# Altium footprint library ideal-diodes.PcbLib: 1 footprints
Each footprint in its own frame and in the unit in brackets; x right, y up, seen from the top. Pads: shape width x height; smd on the part's side, far side on the other; paste and mask are expansions set on the pad; w line width, h text height; cw(c..) or ccw(c..) is an arc to the next point about the centre after c.
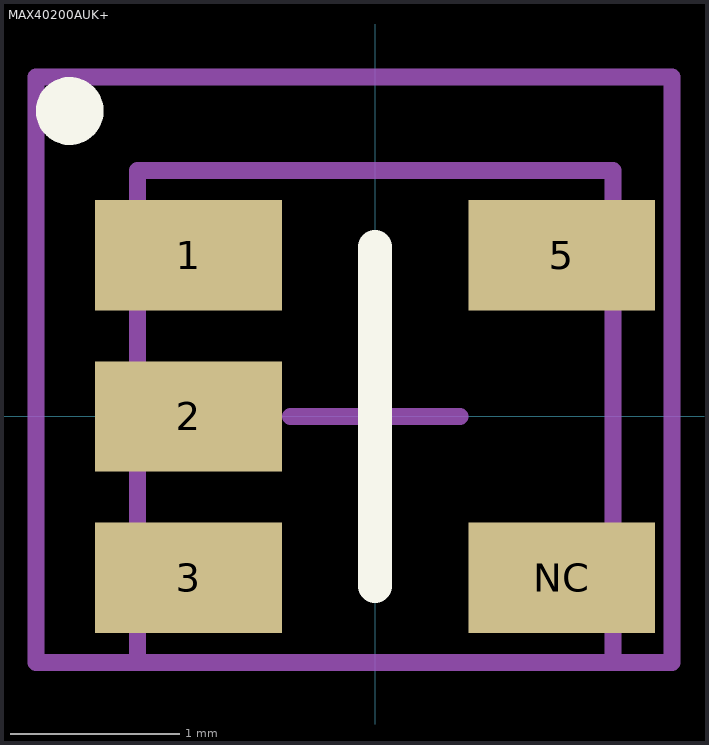
[diagram p0: the footprint, top view; thin cyan lines are the x and y axes]

## MAX40200AUK+ [mm] "SOT23-5"
height 0.45
pads (5):
  rect 1.1x0.65 smd: 1(-1.1,0.95) 2(-1.1,0) 3(-1.1,-0.95) 5(1.1,0.95) NC(1.1,-0.95)
Top Overlay:
  circle w0.2: c-1.8,1.8 r0.1
  lines w0.2: 0,-1 0,1
Top Assembly:
  circle w0.1: c-1,1 r0.2
  lines w0.1: -1.4,-1.45 -1.4,1.45 1.4,1.45 1.4,-1.45 -1.4,-1.45
Top Component Center:
  lines w0.1: -0.5,0 0.5,0 ; 0,-0.5 0,0.5
Top Component Outline:
  lines w0.1: -1.4,-1.45 -1.4,1.45 1.4,1.45 1.4,-1.45 -1.4,-1.45
Top Courtyard:
  lines w0.1: -2,-1.45 -2,2 1.75,2 1.75,-1.45 -2,-1.45
Top Designator:
  text "''.Designator''" at 0,0 h2.5
Top Value:
  text "''.Comment''" at 0,0 h2.5
3D body "MAX40200AUK+T.STEP": height 1.45, standoff 0, extent -1.4,-1.45 1.4,1.45